# Altium footprint library LT6020IDD-1_PBF.PCBLIB: 1 footprints
Each footprint in its own frame and in the unit in brackets; x right, y up, seen from the top. Pads: shape width x height; smd on the part's side, far side on the other; paste and mask are expansions set on the pad; w line width, h text height; cw(c..) or ccw(c..) is an arc to the next point about the centre after c.
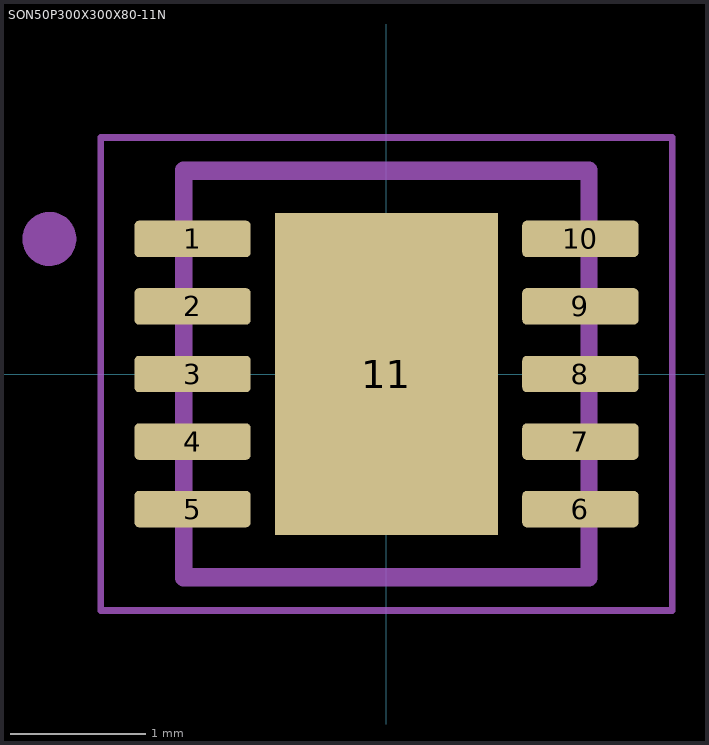
[diagram p0: the footprint, top view; thin cyan lines are the x and y axes]

## SON50P300X300X80-11N [mm]
pads (11):
  rrect25% 0.86x0.27 smd mask+0: 1(-1.435,1) 2(-1.435,0.5) 3(-1.435,0) 4(-1.435,-0.5) 5(-1.435,-1) 6(1.435,-1) 7(1.435,-0.5) 8(1.435,0) 9(1.435,0.5) 10(1.435,1)
  rect 1.65x2.38 smd paste+0 mask+0: 11(0,0)
Top Paste:
  region: -0.52,-0.75 -0.52,0.75 0.52,0.75 0.52,-0.75
Top Solder:
  region: -0.875,-1.24 -0.875,1.24 0.875,1.24 0.875,-1.24
  region: 0,0 0.254,0 0.254,0.254 0,0.254
  region: 0,0 0.254,0 0.254,0.254 0,0.254
  region: 0,0 0.254,0 0.254,0.254 0,0.254
  region: 0,0 0.254,0 0.254,0.254 0,0.254
  region: 0,0 0.254,0 0.254,0.254 0,0.254
  region: 0,0 0.254,0 0.254,0.254 0,0.254
  region: 0,0 0.254,0 0.254,0.254 0,0.254
  region: 0,0 0.254,0 0.254,0.254 0,0.254
  region: 0,0 0.254,0 0.254,0.254 0,0.254
  region: 0,0 0.254,0 0.254,0.254 0,0.254
Assembly Top:
  circle w0.2: c-2.495,1 r0.1
  lines w0.127: -1.5,-1.5 1.5,-1.5 1.5,1.5 -1.5,1.5 -1.5,-1.5
Mechanical 22:
  circle w0.2: c-2.495,1 r0.1
  lines w0.127: -1.5,-1.51 1.5,-1.51 ; -1.5,1.51 1.5,1.51
Mechanical 30:
  lines w0.05: -2.115,-1.75 2.115,-1.75 2.115,1.75 -2.115,1.75 -2.115,-1.75